# EAGLE library part TSM-118-03-T-DV-A (library TSM-118-03-T-DV-A)
36 Position, Dual-Row, .100" Surface Mount Terminal Strip Source: Datasheet <http://suddendocs.samtec.com/prints/tsm-1xx-xx-xxx-xx-x-xxx-x-mkt.pdf>
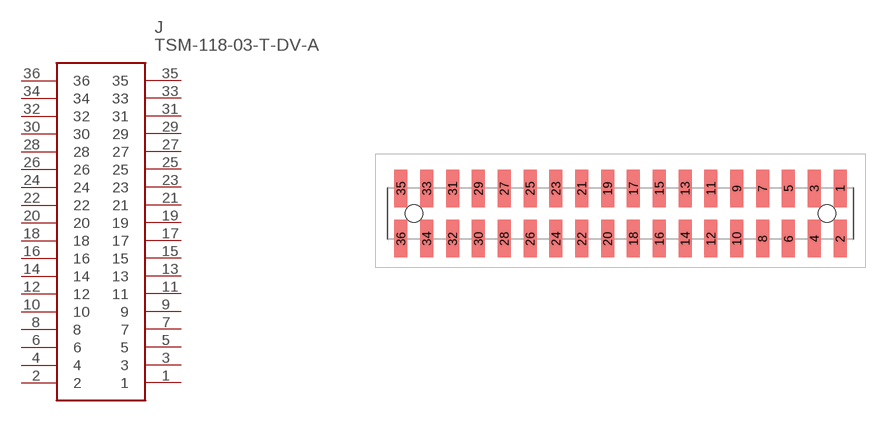
[diagram p0: symbol with the pads of TSM-118-YY-ZZZ-DV-A; footprint TSM-118-YY-ZZZ-DV-A]

Designator prefix J

## TSM-118-03-T-DV-A (DESCRIPTION: 36 Position, Dual-Row, .100&quot; Surface Mount Terminal Strip; HEIGHT: mm; MANUFACTURER_NAME: SAMTEC; MANUFACTURER_PART_NUMBER: TSM-118-03-T-DV-A)  [TSM-118-YY-ZZZ-DV-A]
1  1
2  2
3  3
4  4
5  5
6  6
7  7
8  8
9  9
10  10
11  11
12  12
13  13
14  14
15  15
16  16
17  17
18  18
19  19
20  20
21  21
22  22
23  23
24  24
25  25
26  26
27  27
28  28
29  29
30  30
31  31
32  32
33  33
34  34
35  35
36  36

## Footprint TSM-118-YY-ZZZ-DV-A (pad centres in mm)
TSM-118-YY-ZZZ-DV-A
smd 1.27 x 3.68: 1 21.59,2.475; 2 21.59,-2.475; 3 19.05,2.475; 4 19.05,-2.475; 5 16.51,2.475; 6 16.51,-2.475; 7 13.97,2.475; 8 13.97,-2.475; 9 11.43,2.475; 10 11.43,-2.475; 11 8.89,2.475; 12 8.89,-2.475; 13 6.35,2.475; 14 6.35,-2.475; 15 3.81,2.475; 16 3.81,-2.475; 17 1.27,2.475; 18 1.27,-2.475; 19 -1.27,2.475; 20 -1.27,-2.475; 21 -3.81,2.475; 22 -3.81,-2.475; 23 -6.35,2.475; 24 -6.35,-2.475; 25 -8.89,2.475; 26 -8.89,-2.475; 27 -11.43,2.475; 28 -11.43,-2.475; 29 -13.97,2.475; 30 -13.97,-2.475; 31 -16.51,2.475; 32 -16.51,-2.475; 33 -19.05,2.475; 34 -19.05,-2.475; 35 -21.59,2.475; 36 -21.59,-2.475
hole 1.73 at 20.32,0
hole 1.73 at -20.32,0